# Altium integrated library dc_dc_converters.IntLib: 9 symbols
Pins are listed as number, name and electrical type; pins without a type are passive.

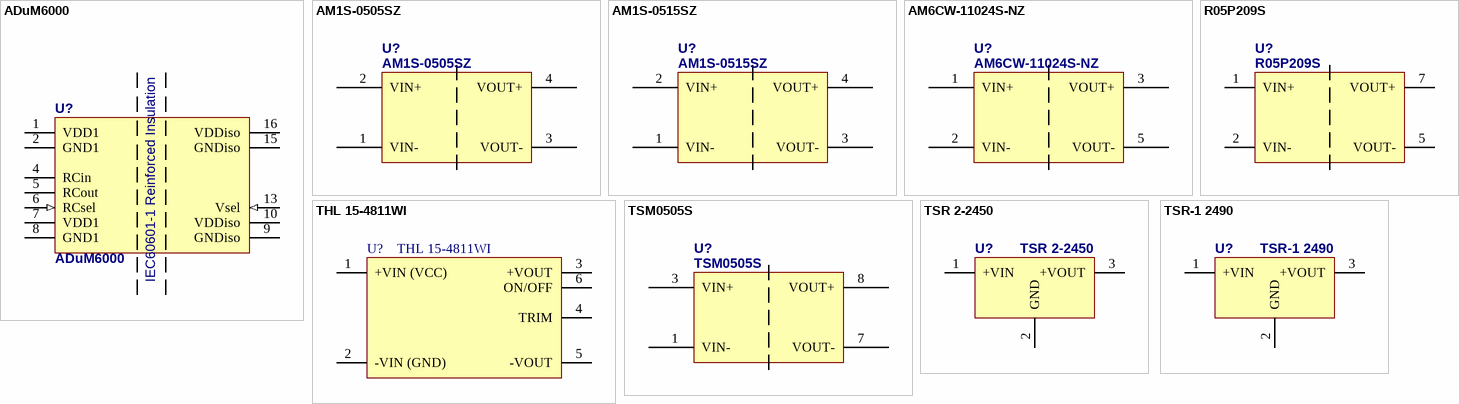
[diagram p0: symbols ADuM6000 to TSR-1 2490]

## ADuM6000
designator U?
Isolated, 5 kV, DC-to-DC Converter
footprint SO16W
pins: 1 VDD1 (power), 2 GND1 (power), 3 NC hidden, 4 RCin, 5 RCout, 6 RCsel (in), 7 VDD1 (power), 8 GND1 (power), 9 GNDiso (power), 10 VDDiso (power), 11 NC hidden, 12 NC hidden, 13 Vsel (in), 14 NC hidden, 15 GNDiso (power), 16 VDDiso (power)
text: IEC60601-1 Reinforced Insulation

## AM1S-0505SZ
designator U?
Aimtec 1Watt DC/DC Converter: 5V Input, 5V@200mA Output; ComponentLink1Description: Website; ComponentLink1URL: http://www.aimtec.com/; ComponentLink2Description: Datasheet; ComponentLink2URL: http://www.aimtec.com/site/Aimtec/files/Datasheet/HighResolution/AM1S-Z.pdf?ft4=6-889
footprint AM1S-Z (1Watt DC-DC Converter, 4 Pin SIP Package)
pins: 1 VIN- (power), 2 VIN+ (power), 3 VOUT- (power), 4 VOUT+ (power)

## AM1S-0515SZ
designator U?
Aimtec 1Watt DC/DC Converter: 5V Input, 15V@67mA Output; ComponentLink1Description: Website; ComponentLink1URL: http://www.aimtec.com/; ComponentLink2Description: Datasheet; ComponentLink2URL: http://www.aimtec.com/site/Aimtec/files/Datasheet/HighResolution/AM1S-Z.pdf?ft4=6-889
footprint AM1S-Z (1Watt DC-DC Converter, 4 Pin SIP Package)
pins: 1 VIN- (power), 2 VIN+ (power), 3 VOUT- (power), 4 VOUT+ (power)

## AM6CW-11024S-NZ
designator U?
Aimtec AM6CW 6W DC/DC Converter: 110V Input, 24V Output; ComponentLink2Description: Datasheet; ComponentLink2URL: http://www.tracopower.com/fileadmin/medien/dokumente/pdf/datasheets/tsm.pdf; ComponentLink1Description: Website; ComponentLink1URL: http://www.tracopower.com/; Supplier 1: TME; Supplier Part Number 1: AM6CW-11024S-NZ
footprint AM6CW (Aimtec AM6CW Series 6W DC/DC Converter)
pins: 1 VIN+ (power), 2 VIN- (power), 3 VOUT+ (power), 5 VOUT- (power)

## R05P209S
designator U?
Recom 5V=>9V@220mA, 6,4kV Medical Grade (EN-60601) DC/DC Converter; ComponentLink1Description: Website; ComponentLink1URL: http://www.aimtec.com/; ComponentLink2Description: Datasheet; ComponentLink2URL: http://www.aimtec.com/site/Aimtec/files/Datasheet/HighResolution/AM1S-Z.pdf?ft4=6-889
footprint RxxP2xxS (Recom RxxP2xxS Series DC/DC Converter)
pins: 1 VIN+ (power), 2 VIN- (power), 5 VOUT- (power), 7 VOUT+ (power)

## THL 15-4811WI
designator U?
THL 15WI Series, 15 Watt: 3A, 5V DC/DC Converter
footprint THL15-xxxx
pins: 1 +VIN (VCC) (power), 2 -VIN (GND) (power), 3 +VOUT (power), 4 TRIM (power), 5 -VOUT (power), 6 ON/OFF (power)

## TSM0505S
designator U?
Traco Power SMD DC/DC Converter: 5V Input, 5V Output; ComponentLink2Description: Datasheet; ComponentLink2URL: http://www.tracopower.com/fileadmin/medien/dokumente/pdf/datasheets/tsm.pdf; ComponentLink1Description: Website; ComponentLink1URL: http://www.tracopower.com/
footprint SOIC-14 (TSM_SINGLE_OUTPUT) (Traco Power TSM Series Single Output Models)
pins: 1 VIN- (power), 3 VIN+ (power), 5 NA hidden, 7 VOUT- (power), 8 VOUT+ (power), 10 NA hidden, 12 NA hidden, 14 NA hidden

## TSR 2-2450
designator U?
Traco Power TSR-2 Series 2A DC/DC Converter - 24V Input, 5V Output
footprint TSR-2 (Traco Power TSR-1 Series 1A DC/DC Converter)
pins: 1 +VIN (power), 2 GND (power), 3 +VOUT (power)

## TSR-1 2490
designator U?
Traco Power TSR-1 Series 1A DC/DC Converter - 24V Input, 9V Output; Supplier 1: TME; Supplier 2: Farnell; Supplier Part Number 1: TSR1-2490; Supplier Part Number 2: 1696322
footprint TSR-1 (Traco Power TSR-1 Series 1A DC/DC Converter)
pins: 1 +VIN (power), 2 GND (power), 3 +VOUT (power)